# Altium schematic symbol library RC0100FR-07800RL.SchLib: 1 symbol
Pins are listed as number, name and electrical type; pins without a type are passive.

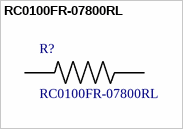
[diagram p0: symbol RC0100FR-07800RL]

## RC0100FR-07800RL
designator R?
/ General 0100 1% Reel _7inch_ 800R /; MF: Yageo; Digi-Key_Purchase_URL: https://www.digikey.com/product-detail/en/yageo/RC0100FR-07800RL/YAG6421CT-ND/9863051?utm_source=snapeda&utm_medium=aggregator&utm_campaign=symbol; Digi-Key_Part_Number: YAG6421CT-ND; Package: 0402 Samsung; SnapEDA_Link: https://www.snapeda.com/parts/RC0100FR-07800RL/Yageo/view-part/?ref=snap; MP: RC0100FR-07800RL; Value: *
footprint *RESC0402X15N
pins: 1, 2